# Altium footprint library Molded Inductor.PcbLib: 4 footprints
Each footprint in its own frame and in the unit in brackets; x right, y up, seen from the top. Pads: shape width x height; smd on the part's side, far side on the other; paste and mask are expansions set on the pad; w line width, h text height; cw(c..) or ccw(c..) is an arc to the next point about the centre after c.
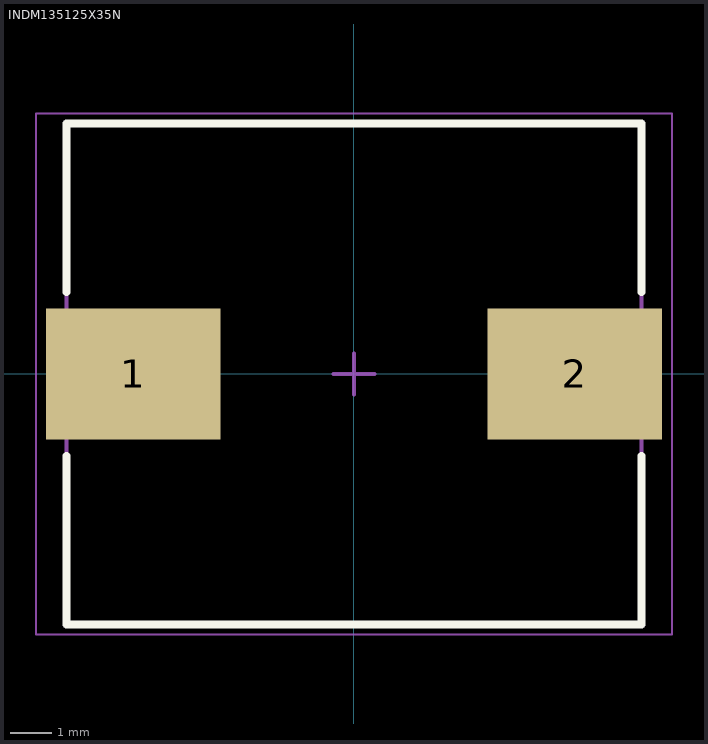
[diagram p0: the footprints below, top view; thin cyan lines are the x and y axes]

## INDM129129X70N [mm] "Molded Inductor, 2-Leads, Body 12.90x12.90mm, IPC Medium Density"
height 7

## INDM135125X35N [mm] "Molded Inductor, 2-Leads, Body 13.50x12.50mm, IPC Medium Density"
height 3.5
pads (2):
  rect 4.25x3.2 smd: 1(-5.375,0) 2(5.375,0)
Top Overlay:
  lines w0.2: -7,-2 -7,-6.1 7,-6.1 7,-2 ; -7,2 -7,6.1 7,6.1 7,2
Mechanical 13:
  lines w0.1: -7,-6.1 7,-6.1 7,6.1 -7,6.1 -7,-6.1
Mechanical 15:
  lines w0.05: -7.75,-6.35 7.75,-6.35 7.75,6.35 -7.75,6.35 -7.75,-6.35
  lines w0.1: -0.5,0 0.5,0 ; 0,-0.5 0,0.5
3D body: height 3.5, standoff 0, extent -7,-6.1 7,6.1

## PCBComponent_1 - duplicate [mm]

## PCBComponent_1 - duplicate1 [mm]